# EAGLE library part SN74LVC2G80 (library sn74lvc2g80)
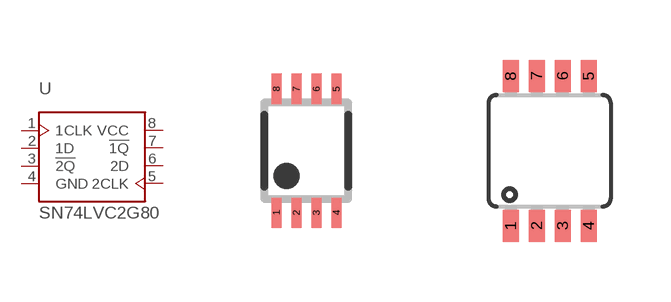
[diagram p0: symbol with the pads of DCU-TSSOP; footprints DCU-TSSOP, DCT-SSOP]

Designator prefix U

## SN74LVC2G80DCU  [DCU-TSSOP]
1  1CLK  in
2  1D  in
3  !2Q  out
4  GND  pwr
5  2CLK  in
6  2D  in
7  !1Q  out
8  VCC  pwr

## SN74LVC2G80DCT  [DCT-SSOP]
Pads as for DCU-TSSOP

## Footprint DCU-TSSOP (pad centres in mm)
smd 0.25 x 0.75: 1 -0.75,-1.55; 2 -0.25,-1.55; 3 0.25,-1.55; 4 0.75,-1.55; 5 0.75,1.55; 6 0.25,1.55; 7 -0.25,1.55; 8 -0.75,1.55

## Footprint DCT-SSOP (pad centres in mm)
smd 0.4 x 0.8: 1 -0.975,-1.875; 2 -0.325,-1.875; 3 0.325,-1.875; 4 0.975,-1.875; 5 0.975,1.875; 6 0.325,1.875; 7 -0.325,1.875; 8 -0.975,1.875